# EAGLE library part UCC12040DVE (library UCC12040DVE)
Isolated DC/DC Converters 500mW, high efficiency 3kVrms isolated DC-DC converter 16-SO-MOD -40 to 125 Source: Datasheet <https://www.ti.com/lit/gpn/UCC12040>
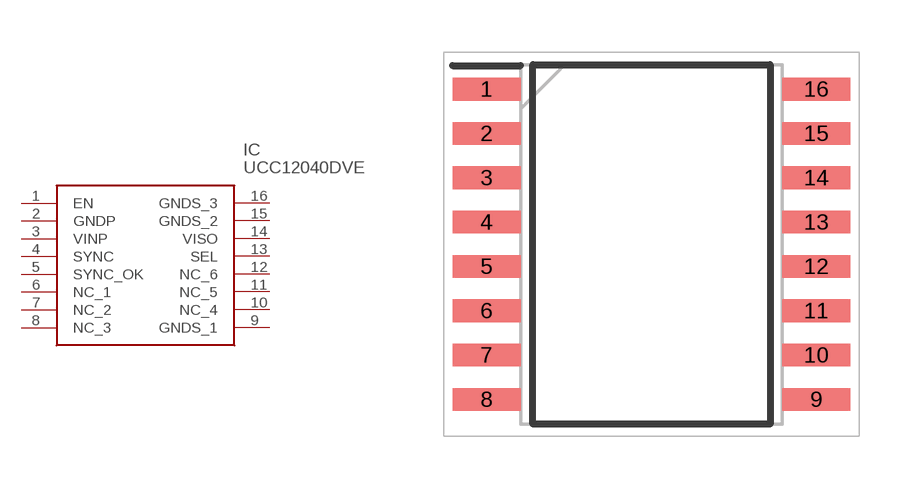
[diagram p0: symbol with the pads of SOIC127P1030X265-16N; footprint SOIC127P1030X265-16N]

Designator prefix IC

## UCC12040DVE (Description: Isolated DC/DC Converters 500mW, high efficiency 3kVrms isolated DC-DC converter 16-SO-MOD -40 to 125; Height: 2.65mm; Manufacturer_Name: Texas Instruments; Manufacturer_Part_Number: UCC12040DVE; Mouser_Part_Number: 595-UCC12040DVE; Mouser_Price-Stock: https://www.mouser.co.uk/ProductDetail/Texas-Instruments/UCC12040DVE?qs=xZ%2FP%252Ba9zWqaWnn41WPN4Eg%3D%3D)  [SOIC127P1030X265-16N]
1  EN
2  GNDP
3  VINP
4  SYNC
5  SYNC_OK
6  NC_1
7  NC_2
8  NC_3
9  GNDS_1
10  NC_4
11  NC_5
12  NC_6
13  SEL
14  VISO
15  GNDS_2
16  GNDS_3

## Footprint SOIC127P1030X265-16N (pad centres in mm)
DVE0016A
smd 1.95 x 0.65: 1 -4.725,4.445; 2 -4.725,3.175; 3 -4.725,1.905; 4 -4.725,0.635; 5 -4.725,-0.635; 6 -4.725,-1.905; 7 -4.725,-3.175; 8 -4.725,-4.445; 9 4.725,-4.445; 10 4.725,-3.175; 11 4.725,-1.905; 12 4.725,-0.635; 13 4.725,0.635; 14 4.725,1.905; 15 4.725,3.175; 16 4.725,4.445